# EAGLE library part MAX485 (library NASA_LIB)
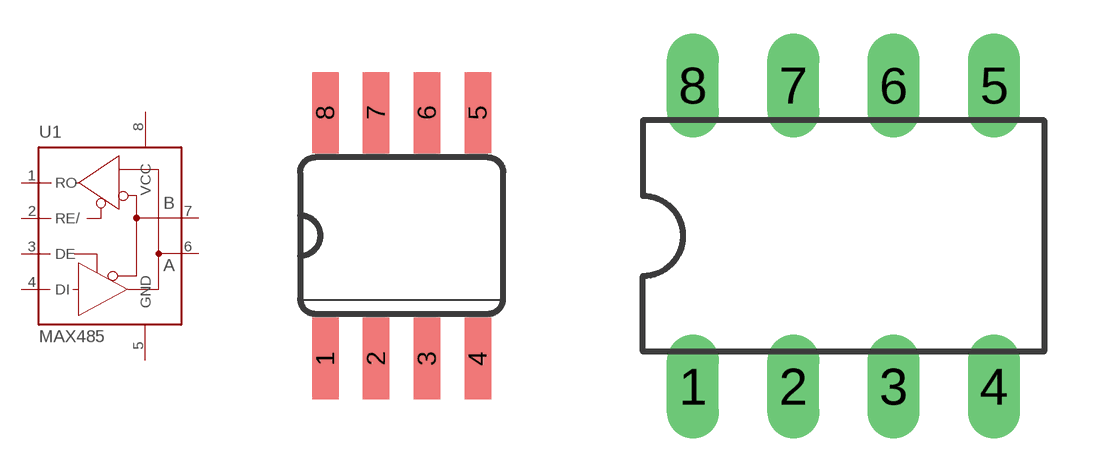
[diagram p22: symbol with the pads of SO08; footprints SO08, DIL-8]

Designator prefix U1

## MAX485SO  [SO08]
1  RO  out
2  RE/  in
3  DE  in
4  DI  in
5  GND
6  A  pas
7  B  pas
8  VCC

## MAX485PD  [DIL-8]
Pads as for SO08

## Footprint SO08 (pad centres in mm)
smd 0.66 x 2.032: 1 -1.905,-3.073; 2 -0.635,-3.073; 3 0.635,-3.073; 4 1.905,-3.073; 5 1.905,3.073; 6 0.635,3.073; 7 -0.635,3.073; 8 -1.905,3.073

## Footprint DIL-8 (pad centres in mm)
drill 0.813 long: 1 -3.81,-3.81; 2 -1.27,-3.81; 3 1.27,-3.81; 4 3.81,-3.81; 5 3.81,3.81; 6 1.27,3.81; 7 -1.27,3.81; 8 -3.81,3.81